# Altium footprint library Special.PcbLib: 67 footprints (part 4 of 5)
Each footprint in its own frame and in the unit in brackets; x right, y up, seen from the top. Pads: shape width x height; smd on the part's side, far side on the other; paste and mask are expansions set on the pad; w line width, h text height; cw(c..) or ccw(c..) is an arc to the next point about the centre after c.
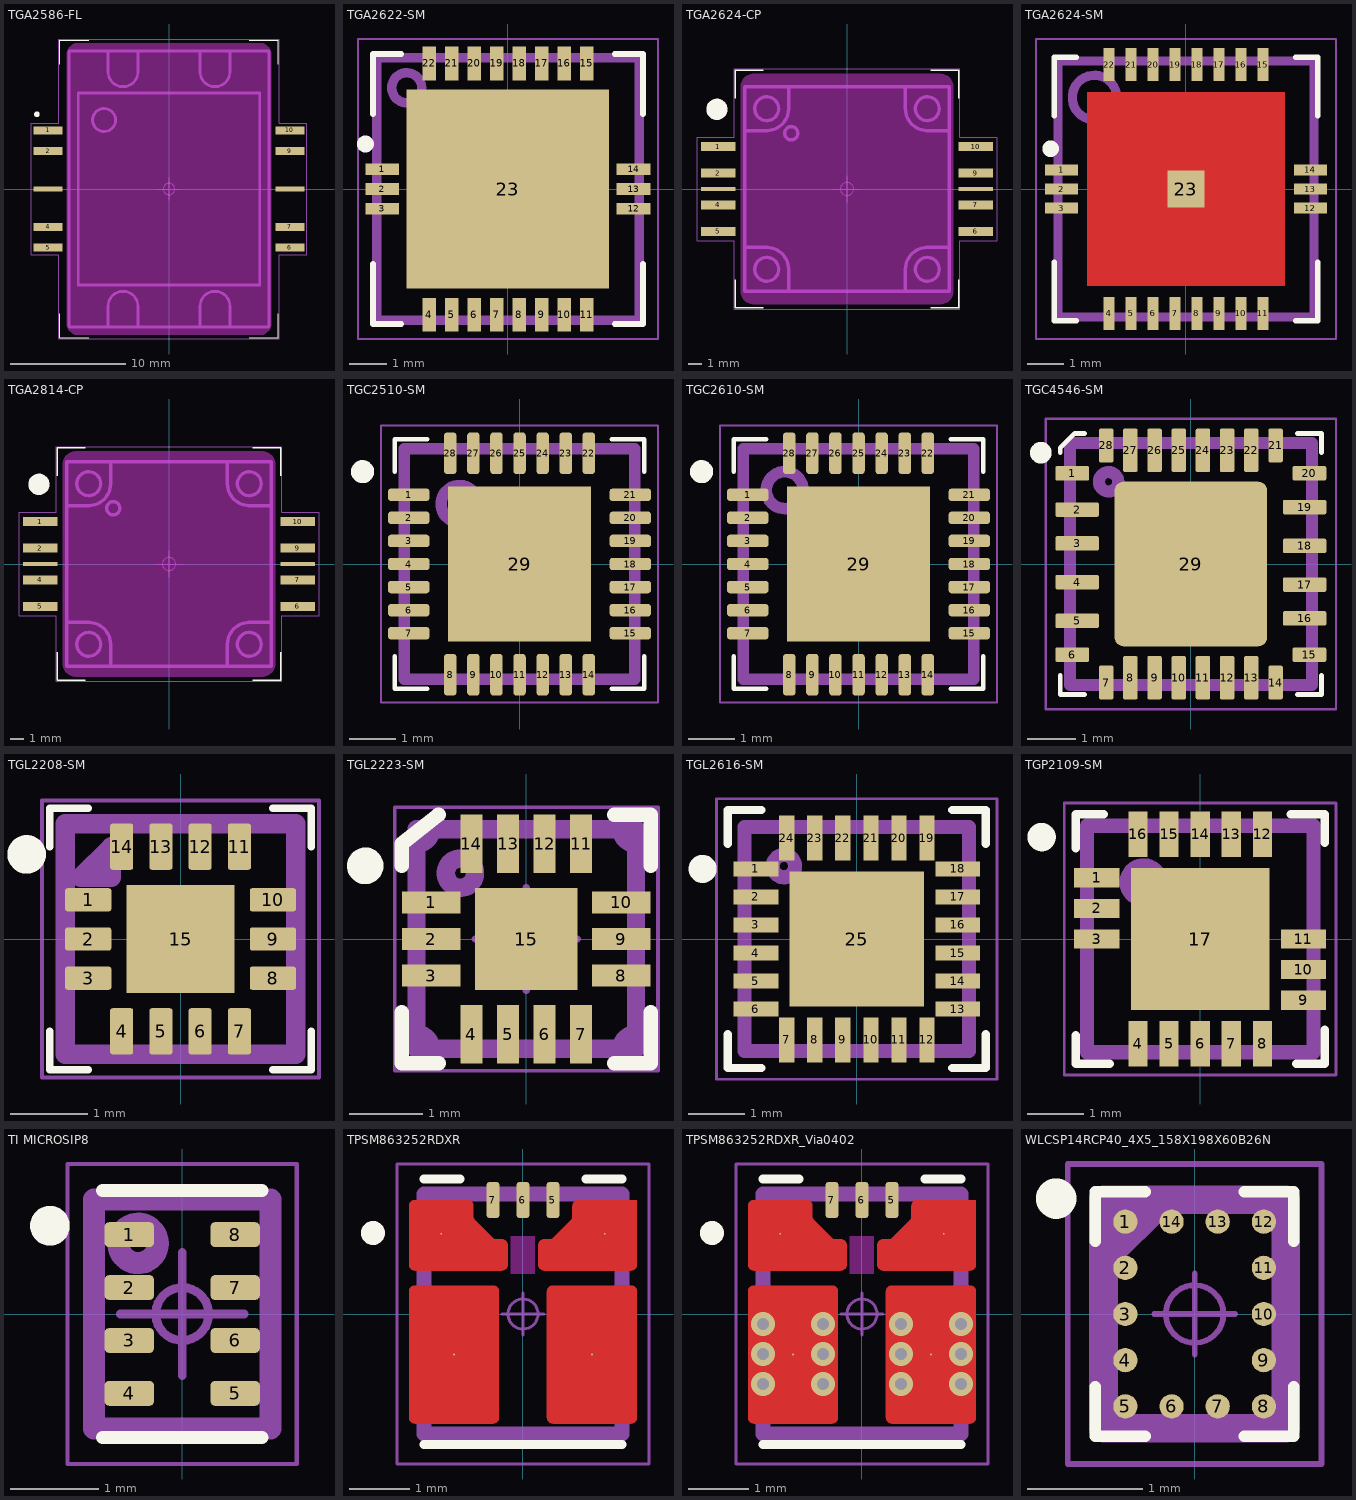
[diagram p3: the footprints below, top view; thin cyan lines are the x and y axes]

## TGA2586-FL [mm] "10 pin CuW-base, flanged  package"
height 1.9
pads (10):
  rect 2.5x0.7 smd: 1(-10.525,5.1) 2(-10.525,3.3) 4(-10.525,-3.3) 5(-10.525,-5.1) 6(10.525,-5.1) 7(10.525,-3.3) 9(10.525,3.3) 10(10.525,5.1)
  rect 2.5x0.4 smd: 3(-10.525,0) 8(10.525,0)
Top Overlay:
  circle w0.3: c-11.5,6.5 r0.1
  lines w0.1: -9.5,-10.85 -9.5,-12.95 -7,-12.95 ; -9.5,10.85 -9.5,12.95 -7,12.95 ; 7,-12.95 9.5,-12.95 9.5,-10.85 ; 7,12.95 9.5,12.95 9.5,10.85
Keep-Out Layer:
  board cut-out: -8.875,11.725 -8.875,-11.725 -8.875,-11.821 -8.838,-12.009 -8.764,-12.187 -8.657,-12.347 -8.522,-12.482 -8.362,-12.589 -8.184,-12.663 -7.996,-12.7 -7.9,-12.7 7.9,-12.7 7.996,-12.7 8.184,-12.663 8.362,-12.589 8.522,-12.482 8.657,-12.346 8.764,-12.187 8.838,-12.009 8.875,-11.821 8.875,-11.725 8.875,11.725 8.875,11.821 8.838,12.009 8.764,12.187 8.657,12.347 8.522,12.482 8.362,12.589 8.184,12.662 7.996,12.7 7.9,12.7 -7.9,12.7 -7.996,12.7 -8.184,12.663 -8.362,12.589 -8.522,12.482 -8.657,12.347 -8.764,12.187 -8.838,12.009 -8.875,11.821
Top Assembly:
  circle w0.25: c-5.65,6 r1
  lines w0.25: -5.3,-12 -5.3,-10.2 cw(c-4,-10.2) -2.7,-10.2 -2.7,-12 ; -5.3,12 -5.3,10.2 ccw(c-4,10.2) -2.7,10.2 -2.7,12 ; 2.7,-12 2.7,-10.2 cw(c4,-10.2) 5.3,-10.2 5.3,-12 ; 2.7,12 2.7,10.2 ccw(c4,10.2) 5.3,10.2 5.3,12 ; -8.7,-12 8.7,-12 8.7,12 -8.7,12 -8.7,-12 ; -7.9,-8.35 7.9,-8.35 7.9,8.35 -7.9,8.35 -7.9,-8.35
  text ".Designator" at -2.7,-0.2 h1.5
Top Courtyard:
  circle w0.1: c0,0 r0.5
  lines w0.05: -1,0 1,0 ; 0,-1 0,1 ; -12,-5.7 -12,5.7 -9.6,5.7 -9.6,13.05 9.6,13.05 9.6,5.7 12,5.7 12,-5.7 9.6,-5.7 9.6,-13.05 -9.6,-13.05 -9.6,-5.7 -12,-5.7
3D body "TGA2586-FL.STEP": height 1.91, standoff -2.03, extent -10.706,-12.001 10.706,12.002

## TGA2622-SM [mm] "Qorvo 7x7x1.75 mm Pullback QFN 22L"
pads (23):
  rect 0.9x0.31 smd: 1(-3.35,0.525) 2(-3.35,0) 3(-3.35,-0.525) 12(3.35,-0.525) 13(3.35,0) 14(3.35,0.525)
  rect 0.35x0.9 smd: 4(-2.1,-3.35) 5(-1.5,-3.35) 6(-0.9,-3.35) 7(-0.3,-3.35) 8(0.3,-3.35) 9(0.9,-3.35) 10(1.5,-3.35) 11(2.1,-3.35) 15(2.1,3.35) 16(1.5,3.35) 17(0.9,3.35) 18(0.3,3.35) 19(-0.3,3.35) 20(-0.9,3.35) 21(-1.5,3.35) 22(-2.1,3.35)
  rect 5.4x5.3 smd paste+0 mask+0: 23(0,0)
Top Overlay:
  circle w0.25: c-3.8,1.2 r0.1
  lines w0.15: -3.6,-2 -3.6,-3.6 -2.85,-3.6 ; -3.6,2 -3.6,3.6 -2.85,3.6 ; 2.85,-3.6 3.6,-3.6 3.6,-2 ; 2.85,3.6 3.6,3.6 3.6,2
Top Assembly:
  circle w0.25: c-2.7,2.7 r0.4
  lines w0.25: -3.5,-3.5 -3.5,3.5 3.5,3.5 3.5,-3.5 -3.5,-3.5
  text ".Designator" at -3.378,-0.339 h1.5
Top Courtyard:
  circle w0.05: c0,0 r0.5
  lines w0.05: -1,0 1,0 ; 0,-1 0,1 ; -4,-4 4,-4 4,4 -4,4 -4,-4
3D body "TGA2622-SM.STEP": height 1.75, standoff 0, extent -3.5,-3.5 3.5,3.5

## TGA2624-CP [mm] "10-lead 15x15 mm  bolt-down package with a Cu base"
height 2.1
pads (10):
  rect 2.6x0.7 smd: 1(-9.7,3.2) 2(-9.7,1.2) 4(-9.7,-1.2) 5(-9.7,-3.2) 6(9.7,-3.2) 7(9.7,-1.2) 9(9.7,1.2) 10(9.7,3.2)
  rect 2.6x0.3 smd: 3(-9.7,0) 8(9.7,0)
Top Overlay:
  circle w0.8: c-9.8,6 r0.4
  lines w0.1: -8.4,-6.85 -8.4,-8.95 -6.3,-8.95 ; -8.4,6.85 -8.4,8.95 -6.3,8.95 ; 6.3,-8.95 8.4,-8.95 8.4,-6.85 ; 6.3,8.95 8.4,8.95 8.4,6.85
Keep-Out Layer:
  board cut-out: -7,8.7 7,8.7 7.098,8.7 7.292,8.662 7.474,8.586 7.637,8.477 7.777,8.337 7.886,8.174 7.962,7.992 8,7.798 8,7.7 8,-7.7 8,-7.799 7.962,-7.992 7.886,-8.174 7.777,-8.337 7.637,-8.477 7.474,-8.586 7.292,-8.662 7.098,-8.7 7,-8.7 -7,-8.7 -7.098,-8.7 -7.292,-8.662 -7.474,-8.586 -7.637,-8.477 -7.777,-8.337 -7.886,-8.174 -7.962,-7.992 -8,-7.798 -8,-7.7 -8,7.7 -8,7.798 -7.962,7.992 -7.886,8.174 -7.777,8.337 -7.638,8.477 -7.474,8.586 -7.292,8.662 -7.099,8.7
Top Assembly:
  circle w0.25: c-6.05,6.05 r0.9
  circle w0.25: c6.05,6.05 r0.9
  circle w0.25: c6.05,-6.05 r0.9
  circle w0.25: c-6.05,-6.05 r0.9
  circle w0.25: c-4.2,4.2 r0.5
  lines w0.25: -7.7,-4.4 -6,-4.4 ; -7.7,4.4 -6,4.4 ; -6.05,-4.4 cw(c-6.05,-6.05) -4.4,-6.05 ; -6.05,4.4 ccw(c-6.05,6.05) -4.4,6.05 ; -4.4,-7.7 -4.4,-6 ; -4.4,6 -4.4,7.7 ; 4.4,-7.7 4.4,-6 ; 4.4,-6.05 cw(c6.05,-6.05) 6.05,-4.4 ; 4.4,6 4.4,7.7 ; 4.4,6.05 ccw(c6.05,6.05) 6.05,4.4 ; 6,-4.4 7.7,-4.4 ; 6,4.4 7.7,4.4 ; -7.7,-7.7 7.7,-7.7 7.7,7.7 -7.7,7.7 -7.7,-7.7
  text ".Designator" at -2.7,-0.2 h1.5
Top Courtyard:
  circle w0.05: c0,0 r0.5
  lines w0.05: -1,0 1,0 ; 0,-1 0,1 ; -11.3,-3.9 -11.3,3.9 -8.5,3.9 -8.5,9.05 8.5,9.05 8.5,3.9 11.3,3.9 11.3,-3.9 8.5,-3.9 8.5,-9.05 -8.5,-9.05 -8.5,-3.9 -11.3,-3.9
3D body "tga-2624-cp.STEP": height 2.2, standoff -1.4, extent -9.55,-7.65 9.55,7.65

## TGA2624-SM [mm] "Qorvo TGA2624-SM QFN 7 x 7 x 1.7 mm"
height 1.717
pads (23):
  rect 0.9x0.3 smd: 1(-3.4,0.525) 2(-3.4,0) 3(-3.4,-0.525) 12(3.4,-0.525) 13(3.4,0) 14(3.4,0.525)
  rect 0.3x0.9 smd: 4(-2.1,-3.4) 5(-1.5,-3.4) 6(-0.9,-3.4) 7(-0.3,-3.4) 8(0.3,-3.4) 9(0.9,-3.4) 10(1.5,-3.4) 11(2.1,-3.4) 15(2.1,3.4) 16(1.5,3.4) 17(0.9,3.4) 18(0.3,3.4) 19(-0.3,3.4) 20(-0.9,3.4) 21(-1.5,3.4) 22(-2.1,3.4)
  rect 1x1 smd: 23(0,0)
Top Layer:
  region: -2.7,2.65 2.7,2.65 2.7,-2.65 -2.7,-2.65
Top Overlay:
  circle w0.25: c-3.7,1.1 r0.1
  lines w0.15: -3.6,-2 -3.6,-3.6 -3,-3.6 ; -3.6,2 -3.6,3.6 -3,3.6 ; 3,-3.6 3.6,-3.6 3.6,-2 ; 3,3.6 3.6,3.6 3.6,2
Top Assembly:
  circle w0.25: c-2.5,2.5 r0.608
  lines w0.25: -3.5,-3.5 3.5,-3.5 3.5,3.5 -3.5,3.5 -3.5,-3.5
  text ".Designator" at -3.378,-0.339 h1.5
Top Courtyard:
  circle w0.05: c0,0 r0.5
  lines w0.05: -1,0 1,0 ; 0,-1 0,1 ; -4.1,-4.1 4.1,-4.1 4.1,4.1 -4.1,4.1 -4.1,-4.1
3D body "TGA2624-SM.STEP": height 1.72, standoff 0, extent -3.5,-3.5 3.5,3.5

## TGA2814-CP [mm] "10-lead 15x15 mm  bolt-down package with a Cu base"
height 2.1
pads (10):
  rect 2.6x0.7 smd: 1(-9.7,3.2) 2(-9.7,1.2) 4(-9.7,-1.2) 5(-9.7,-3.2) 6(9.7,-3.2) 7(9.7,-1.2) 9(9.7,1.2) 10(9.7,3.2)
  rect 2.6x0.3 smd: 3(-9.7,0) 8(9.7,0)
Top Overlay:
  circle w0.8: c-9.8,6 r0.4
  lines w0.1: -8.4,-6.65 -8.4,-8.75 -6.3,-8.75 ; -8.4,6.65 -8.4,8.75 -6.3,8.75 ; 6.3,-8.75 8.4,-8.75 8.4,-6.65 ; 6.3,8.75 8.4,8.75 8.4,6.65
Keep-Out Layer:
  board cut-out: -7,8.5 7,8.5 7.098,8.5 7.292,8.462 7.474,8.386 7.637,8.277 7.777,8.137 7.886,7.974 7.962,7.792 8,7.598 8,7.5 8,-7.5 8,-7.599 7.961,-7.792 7.886,-7.974 7.777,-8.137 7.637,-8.277 7.474,-8.386 7.292,-8.462 7.098,-8.5 7,-8.5 -7,-8.5 -7.098,-8.5 -7.292,-8.462 -7.474,-8.386 -7.637,-8.277 -7.777,-8.137 -7.886,-7.974 -7.962,-7.792 -8,-7.598 -8,-7.5 -8,7.5 -8,7.599 -7.962,7.792 -7.886,7.974 -7.777,8.137 -7.637,8.277 -7.474,8.386 -7.292,8.462 -7.098,8.5
Top Assembly:
  circle w0.25: c-4.2,4.2 r0.5
  circle w0.25: c-6.05,-6.05 r0.9
  circle w0.25: c6.05,-6.05 r0.9
  circle w0.25: c6.05,6.05 r0.9
  circle w0.25: c-6.05,6.05 r0.9
  lines w0.25: -7.7,-4.4 -6,-4.4 ; -7.7,4.4 -6,4.4 ; -6.05,-4.4 cw(c-6.05,-6.05) -4.4,-6.05 ; -6.05,4.4 ccw(c-6.05,6.05) -4.4,6.05 ; -4.4,-7.7 -4.4,-6 ; -4.4,6 -4.4,7.7 ; 4.4,-7.7 4.4,-6 ; 4.4,-6.05 cw(c6.05,-6.05) 6.05,-4.4 ; 4.4,6 4.4,7.7 ; 4.4,6.05 ccw(c6.05,6.05) 6.05,4.4 ; 6,-4.4 7.7,-4.4 ; 6,4.4 7.7,4.4 ; -7.7,-7.7 -7.7,7.7 7.7,7.7 7.7,-7.7 -7.7,-7.7
  text ".Designator" at -2.6,-0.1 h1.5
Top Courtyard:
  circle w0.05: c0,0 r0.5
  lines w0.05: -1,0 1,0 ; 0,-1 0,1 ; -11.3,-3.9 -8.5,-3.9 -8.5,-8.85 8.5,-8.85 8.5,-3.9 11.3,-3.9 11.3,3.9 8.5,3.9 8.5,8.85 -8.5,8.85 -8.5,3.9 -11.3,3.9 -11.3,-3.9
3D body "TGA2814-CP.STEP": height 2.76, standoff -1, extent -9.525,-7.62 9.525,7.62

## TGC2510-SM [mm] "TGC2510-SM"
height 1.4
pads (29):
  rrect50% 0.9x0.27 smd: 1(-2.4,1.5) 2(-2.4,1) 3(-2.4,0.5) 4(-2.4,0) 5(-2.4,-0.5) 6(-2.4,-1) 7(-2.4,-1.5) 15(2.4,-1.5) 16(2.4,-1) 17(2.4,-0.5) 18(2.4,0) 19(2.4,0.5) 20(2.4,1) 21(2.4,1.5)
  rrect50% 0.27x0.9 smd: 8(-1.5,-2.4) 9(-1,-2.4) 10(-0.5,-2.4) 11(0,-2.4) 12(0.5,-2.4) 13(1,-2.4) 14(1.5,-2.4) 22(1.5,2.4) 23(1,2.4) 24(0.5,2.4) 25(0,2.4) 26(-0.5,2.4) 27(-1,2.4) 28(-1.5,2.4)
  rect 3.1x3.35 smd paste-3.35 mask-3.35: 29(0,0)
Top Overlay:
  circle w0.3: c-3.4,2 r0.1
  lines w0.1: -2.7,-2 -2.7,-2.7 -2,-2.7 ; -2.7,2 -2.7,2.7 -2,2.7 ; 2,-2.7 2.7,-2.7 2.7,-2 ; 2,2.7 2.7,2.7 2.7,2
Top Paste:
  region: -0.235,1.435 -1.315,1.435 -1.315,0.235 -0.235,0.235
  region: -0.235,-1.435 -1.315,-1.435 -1.315,-0.235 -0.235,-0.235
  region: 0.235,-1.435 1.315,-1.435 1.315,-0.235 0.235,-0.235
  region: 0.235,1.435 1.315,1.435 1.315,0.235 0.235,0.235
Top Solder:
  region: -1.55,-1.675 -1.55,1.675 1.55,1.675 1.55,-1.675
Top Assembly:
  circle w0.25: c-1.3,1.3 r0.4
  lines w0.25: -2.5,-2.5 2.5,-2.5 2.5,2.5 -2.5,2.5 -2.5,-2.5
  text ".Designator" at -2,-0.5 h1.5
Top Courtyard:
  circle w0.05: c0,0 r0.3
  lines w0.05: -0.5,0 0.5,0 ; 0,-0.5 0,0.5 ; -3,-3 -3,3 3,3 3,-3 -3,-3
3D body "TGC2510-SM.STEP": height 1.4, standoff 0, extent -2.55,-2.55 2.55,2.55

## TGC2610-SM [mm] "TGC2610-SM"
height 1.4
pads (29):
  rrect50% 0.9x0.27 smd: 1(-2.4,1.5) 2(-2.4,1) 3(-2.4,0.5) 4(-2.4,0) 5(-2.4,-0.5) 6(-2.4,-1) 7(-2.4,-1.5) 15(2.4,-1.5) 16(2.4,-1) 17(2.4,-0.5) 18(2.4,0) 19(2.4,0.5) 20(2.4,1) 21(2.4,1.5)
  rrect50% 0.27x0.9 smd: 8(-1.5,-2.4) 9(-1,-2.4) 10(-0.5,-2.4) 11(0,-2.4) 12(0.5,-2.4) 13(1,-2.4) 14(1.5,-2.4) 22(1.5,2.4) 23(1,2.4) 24(0.5,2.4) 25(0,2.4) 26(-0.5,2.4) 27(-1,2.4) 28(-1.5,2.4)
  rect 3.1x3.35 smd paste-3.35 mask-3.35: 29(0,0)
Top Overlay:
  circle w0.3: c-3.4,2 r0.1
  lines w0.1: -2.7,-2 -2.7,-2.7 -2,-2.7 ; -2.7,2 -2.7,2.7 -2,2.7 ; 2,-2.7 2.7,-2.7 2.7,-2 ; 2,2.7 2.7,2.7 2.7,2
Top Paste:
  region: -0.235,1.435 -1.315,1.435 -1.315,0.235 -0.235,0.235
  region: -0.235,-1.435 -1.315,-1.435 -1.315,-0.235 -0.235,-0.235
  region: 0.235,-1.435 1.315,-1.435 1.315,-0.235 0.235,-0.235
  region: 0.235,1.435 1.315,1.435 1.315,0.235 0.235,0.235
Top Solder:
  region: -1.55,-1.675 -1.55,1.675 1.55,1.675 1.55,-1.675
Top Assembly:
  circle w0.25: c-1.6,1.6 r0.4
  lines w0.25: -2.5,-2.5 2.5,-2.5 2.5,2.5 -2.5,2.5 -2.5,-2.5
  text ".Designator" at -2,-0.4 h1.5
Top Courtyard:
  circle w0.05: c0,0 r0.3
  lines w0.05: -0.5,0 0.5,0 ; 0,-0.5 0,0.5 ; -3,-3 -3,3 3,3 3,-3 -3,-3
3D body "TGC2610-SM.STEP": height 1.4, standoff 0, extent -2.55,-2.55 2.55,2.55

## TGC4546-SM [mm] "TriQuint TGC4546-SM"
height 1.4
pads (29):
  rrect25% 0.7x0.3 smd: 1(-2.45,1.875) 6(-2.45,-1.875) 15(2.45,-1.875) 20(2.45,1.875)
  rrect25% 0.9x0.3 smd: 2(-2.35,1.125) 3(-2.35,0.425) 4(-2.35,-0.375) 5(-2.35,-1.175) 16(2.35,-1.125) 17(2.35,-0.425) 18(2.35,0.375) 19(2.35,1.175)
  rrect25% 0.3x0.7 smd: 7(-1.75,-2.45) 14(1.75,-2.45) 21(1.75,2.45) 28(-1.75,2.45)
  rrect25% 0.3x0.9 smd: 8(-1.25,-2.35) 9(-0.75,-2.35) 10(-0.25,-2.35) 11(0.25,-2.35) 12(0.75,-2.35) 13(1.25,-2.35) 22(1.25,2.35) 23(0.75,2.35) 24(0.25,2.35) 25(-0.25,2.35) 26(-0.75,2.35) 27(-1.25,2.35)
  rrect11% 3.15x3.4 smd: 29(0,0)
Top Overlay:
  circle w0.25: c-3.1,2.3 r0.1
  lines w0.1: -2.7,-2.3 -2.7,-2.7 -2.2,-2.7 ; -2.7,2.3 -2.7,2.4 -2.4,2.7 -2.2,2.7 ; 2.2,-2.7 2.7,-2.7 2.7,-2.3 ; 2.2,2.7 2.7,2.7 2.7,2.3
Top Assembly:
  circle w0.25: c-1.7,1.7 r0.2
  lines w0.25: -2.5,-2.5 -2.5,2.5 2.5,2.5 2.5,-2.5 -2.5,-2.5
  text ".Designator" at -1.625,-0.325 h1.5
Top Courtyard:
  circle w0.05: c0,0 r0.3
  lines w0.05: -0.5,0 0.5,0 ; 0,-0.5 0,0.5 ; -3,-3 -3,3 3,3 3,-3 -3,-3
3D body "TGC4546-SM.STEP": height 1.4, standoff -0.05, extent -2.5,-2.501 2.5,2.5

## TGL2208-SM [mm] "Qorvo TGL2208-SM"
height 1.7
pads (15):
  rrect20% 0.6x0.3 smd: 1(-1.2,0.51) 2(-1.2,0) 3(-1.2,-0.51) 8(1.2,-0.51) 9(1.2,0) 10(1.2,0.51)
  rrect20% 0.3x0.6 smd: 4(-0.765,-1.2) 5(-0.255,-1.2) 6(0.255,-1.2) 7(0.765,-1.2) 11(0.765,1.2) 12(0.255,1.2) 13(-0.255,1.2) 14(-0.765,1.2)
  rect 1.4x1.4 smd: 15(0,0)
Top Overlay:
  circle w0.3: c-2,1.1 r0.1
  lines w0.1: -1.7,-1.2 -1.7,-1.7 -1.2,-1.7 ; -1.7,1.2 -1.7,1.7 -1.2,1.7 ; 1.2,-1.7 1.7,-1.7 1.7,-1.2 ; 1.2,1.7 1.7,1.7 1.7,1.2
Top Assembly:
  lines w0.25: -1.499,-1.499 -1.499,1.499 1.499,1.499 1.499,-1.499 -1.499,-1.499 ; -1.3,0.8 -0.9,0.8 -0.9,1.2 -1.3,0.8
  text ".Designator" at -1.3,-0.5 h1.5
Top Courtyard:
  circle w0.05: c0,0 r0.3
  lines w0.05: -0.5,0 0.5,0 ; 0,-0.5 0,0.5 ; -1.8,-1.8 1.8,-1.8 1.8,1.8 -1.8,1.8 -1.8,-1.8
3D body "TGL2208-SM.STEP": height 1.78, standoff 0, extent -1.499,-1.499 1.499,1.499

## TGL2223-SM [mm] "TGL2223-SM"
height 1.6
pads (15):
  rect 0.8x0.3 smd: 1(-1.3,0.5) 2(-1.3,0) 3(-1.3,-0.5) 8(1.3,-0.5) 9(1.3,0) 10(1.3,0.5)
  rect 0.3x0.8 smd: 4(-0.75,-1.3) 5(-0.25,-1.3) 6(0.25,-1.3) 7(0.75,-1.3) 11(0.75,1.3) 12(0.25,1.3) 13(-0.25,1.3) 14(-0.75,1.3)
  rect 1.4x1.4 smd: 15(0,0)
Top Overlay:
  circle w0.3: c-2.2,1 r0.1
  lines w0.2: -1.7,-1 -1.7,-1.7 -1.2,-1.7 ; -1.7,1 -1.7,1.3 -1.2,1.7 ; 1.2,-1.7 1.7,-1.7 1.7,-1 ; 1.2,1.7 1.7,1.7 1.7,1
Top Assembly:
  circle w0.25: c-0.9,0.9 r0.2
  lines w0.25: -1.5,-1.3 cw(c-1.5,-1.5) -1.3,-1.5 ; -1.5,1.3 ccw(c-1.5,1.5) -1.3,1.5 ; 1.3,-1.5 cw(c1.5,-1.5) 1.5,-1.3 ; 1.3,1.5 ccw(c1.5,1.5) 1.5,1.3 ; -1.5,-1.5 1.5,-1.5 1.5,1.5 -1.5,1.5 -1.5,-1.5
  text ".Designator" at -1.3,-0.5 h1.5
Top Courtyard:
  circle w0.1: c0,0 r0.3
  lines w0.05: -1.8,-1.8 -1.8,1.8 1.8,1.8 1.8,-1.8 -1.8,-1.8
  lines w0.1: -0.7,0 0.7,0 ; 0,-0.7 0,0.7
3D body "TGL2223-SM.STEP": height 1.61, standoff -0.02, extent -1.5,-1.5 1.5,1.5

## TGL2616-SM [mm] "Qorvo TGL2616-SM"
height 1.77
pads (25):
  rect 0.8x0.27 smd: 1(-1.8,1.25) 2(-1.8,0.75) 3(-1.8,0.25) 4(-1.8,-0.25) 5(-1.8,-0.75) 6(-1.8,-1.25) 13(1.8,-1.25) 14(1.8,-0.75) 15(1.8,-0.25) 16(1.8,0.25) 17(1.8,0.75) 18(1.8,1.25)
  rect 0.27x0.8 smd: 7(-1.25,-1.8) 8(-0.75,-1.8) 9(-0.25,-1.8) 10(0.25,-1.8) 11(0.75,-1.8) 12(1.25,-1.8) 19(1.25,1.8) 20(0.75,1.8) 21(0.25,1.8) 22(-0.25,1.8) 23(-0.75,1.8) 24(-1.25,1.8)
  rect 2.4x2.4 smd: 25(0,0)
Top Overlay:
  circle w0.3: c-2.75,1.25 r0.1
  lines w0.15: -2.3,-1.7 -2.3,-2.3 -1.7,-2.3 ; -2.3,1.7 -2.3,2.3 -1.7,2.3 ; 1.7,-2.3 2.3,-2.3 2.3,-1.7 ; 1.7,2.3 2.3,2.3 2.3,1.7
Top Assembly:
  circle w0.25: c-1.3,1.3 r0.2
  lines w0.25: -2,-2 -2,2 2,2 2,-2 -2,-2
  text ".Designator" at -1.7,-0.5 h1.5
Top Courtyard:
  circle w0.1: c0,0 r0.3
  lines w0.05: -2.5,-2.5 -2.5,2.5 2.5,2.5 2.5,-2.5 -2.5,-2.5
  lines w0.1: -0.7,0 0.7,0 ; 0,-0.7 0,0.7
3D body "TGL2616-SM.STEP": height 1.77, standoff 0, extent -2,-2 2,2

## TGP2109-SM [mm] "Qorvo TGP2109-SM"
height 1.64
pads (17):
  rect 0.8x0.34 smd: 1(-1.825,1.08) 2(-1.825,0.54) 3(-1.825,0) 9(1.825,-1.08) 10(1.825,-0.54) 11(1.825,0)
  rect 0.34x0.8 smd: 4(-1.1,-1.85) 5(-0.55,-1.85) 6(0,-1.85) 7(0.55,-1.85) 8(1.1,-1.85) 12(1.1,1.85) 13(0.55,1.85) 14(0,1.85) 15(-0.55,1.85) 16(-1.1,1.85)
  rect 2.45x2.5 smd: 17(0,0)
Top Overlay:
  circle w0.3: c-2.8,1.8 r0.1
  lines w0.15: -2.2,-1.7 -2.2,-2.2 -1.6,-2.2 ; -2.2,1.6 -2.2,2.2 -1.7,2.2 ; 1.6,2.2 2.2,2.2 2.2,1.7 ; 1.7,-2.2 2.2,-2.2 2.2,-1.6
Top Assembly:
  circle w0.25: c-1,1 r0.3
  lines w0.25: -2,-2 2,-2 2,2 -2,2 -2,-2
  text ".Designator" at -1.8,-0.5 h1.5
Top Courtyard:
  circle w0.1: c0,0 r0.3
  lines w0.05: -2.4,-2.4 2.4,-2.4 2.4,2.4 -2.4,2.4 -2.4,-2.4
  lines w0.1: -0.7,0 0.7,0 ; 0,-0.7 0,0.7
3D body "TGP2109-SM.STEP": height 1.64, standoff 0, extent -2,-2 2,2

## TI MICROSIP8 [mm] "MicroSiP - 1.2 mm max height"
height 1.2
pads (8):
  rrect35% 0.56x0.28 smd: 1(-0.6,0.9) 2(-0.6,0.3) 3(-0.6,-0.3) 4(-0.6,-0.9) 5(0.6,-0.9) 6(0.6,-0.3) 7(0.6,0.3) 8(0.6,0.9)
Top Overlay:
  circle w0.25: c-1.5,1 r0.1
  lines w0.15: -0.9,-1.4 0.9,-1.4 ; -0.9,1.4 0.9,1.4
Top Assembly:
  circle w0.25: c-0.5,0.8 r0.224
  lines w0.25: -1,-1.3 -1,1.3 1,1.3 1,-1.3 -1,-1.3
  text ".Designator" at -3.378,-0.339 h1.5
Top Courtyard:
  circle w0.1: c0,0 r0.3
  lines w0.05: -1.3,-1.7 1.3,-1.7 1.3,1.7 -1.3,1.7 -1.3,-1.7
  lines w0.1: -0.7,0 0.7,0 ; 0,-0.7 0,0.7
3D body "MICROSIP8_SIU.STEP": height 1.2, standoff 0, extent -1,-1.3 1,1.3

## TPSM863252RDXR [mm] "TI QFN-FCMOD - 3.3 mm x 4 mm, 2.1 mm max height"
height 2.1
pads (7):
  round 0.025 smd paste+0: 1(-1.362,1.338) 2(-1.15,-0.675) 3(1.15,-0.675) 4(1.362,1.338)
  rrect50% 0.22x0.6 smd paste+0: 5(0.5,1.9) 6(0,1.9) 7(-0.5,1.9)
Top Layer:
  region: 0.305,0.79 0.305,1.21 0.498,1.21 0.875,1.587 0.875,1.9 1.9,1.9 1.9,0.79
  region: 1.81,0.474 1.816,0.474 1.821,0.473 1.826,0.472 1.831,0.47 1.836,0.468 1.841,0.466 1.845,0.464 1.85,0.462 1.854,0.459 1.859,0.456 1.863,0.453 1.867,0.449 1.871,0.446 1.874,0.442 1.878,0.438 1.881,0.434 1.884,0.429 1.887,0.425 1.889,0.42 1.891,0.416 1.893,0.411 1.895,0.406 1.897,0.401 1.898,0.396 1.899,0.391 1.899,0.385 1.9,0.38 1.9,0.375 1.9,-1.725 1.9,-1.73 1.899,-1.735 1.899,-1.741 1.898,-1.746 1.897,-1.751 1.895,-1.756 1.893,-1.761 1.891,-1.766 1.889,-1.77 1.887,-1.775 1.884,-1.779 1.881,-1.784 1.878,-1.788 1.874,-1.792 1.871,-1.796 1.867,-1.799 1.863,-1.803 1.859,-1.806 1.854,-1.809 1.85,-1.812 1.845,-1.814 1.841,-1.816 1.836,-1.818 1.831,-1.82 1.826,-1.822 1.821,-1.823 1.816,-1.824 1.81,-1.824 1.805,-1.825 0.495,-1.825 0.49,-1.824 0.484,-1.824 0.479,-1.823 0.474,-1.822 0.469,-1.82 0.464,-1.818 0.459,-1.816 0.455,-1.814 0.45,-1.812 0.446,-1.809 0.441,-1.806 0.437,-1.803 0.433,-1.799 0.429,-1.796 0.426,-1.792 0.422,-1.788 0.419,-1.784 0.416,-1.779 0.413,-1.775 0.411,-1.77 0.409,-1.766 0.407,-1.761 0.405,-1.756 0.403,-1.751 0.402,-1.746 0.401,-1.741 0.401,-1.735 0.4,-1.73 0.4,-1.725 0.4,0.375 0.4,0.38 0.401,0.385 0.401,0.391 0.402,0.396 0.403,0.401 0.405,0.406 0.407,0.411 0.409,0.416 0.411,0.42 0.413,0.425 0.416,0.429 0.419,0.434 0.422,0.438 0.426,0.442 0.429,0.446 0.433,0.449 0.437,0.453 0.441,0.456 0.446,0.459 0.45,0.462 0.455,0.464 0.459,0.466 0.464,0.468 0.469,0.47 0.474,0.472 0.479,0.473 0.484,0.474 0.49,0.474 0.495,0.475 1.805,0.475
  region: -0.49,0.474 -0.484,0.474 -0.479,0.473 -0.474,0.472 -0.469,0.47 -0.464,0.468 -0.459,0.466 -0.455,0.464 -0.45,0.462 -0.446,0.459 -0.441,0.456 -0.437,0.453 -0.433,0.449 -0.429,0.446 -0.426,0.442 -0.422,0.438 -0.419,0.434 -0.416,0.429 -0.413,0.425 -0.411,0.42 -0.409,0.416 -0.407,0.411 -0.405,0.406 -0.403,0.401 -0.402,0.396 -0.401,0.391 -0.401,0.385 -0.4,0.38 -0.4,0.375 -0.4,-1.725 -0.4,-1.73 -0.401,-1.735 -0.401,-1.741 -0.402,-1.746 -0.403,-1.751 -0.405,-1.756 -0.407,-1.761 -0.409,-1.766 -0.411,-1.77 -0.413,-1.775 -0.416,-1.779 -0.419,-1.784 -0.422,-1.788 -0.426,-1.792 -0.429,-1.796 -0.433,-1.799 -0.437,-1.803 -0.441,-1.806 -0.446,-1.809 -0.45,-1.812 -0.455,-1.814 -0.459,-1.816 -0.464,-1.818 -0.469,-1.82 -0.474,-1.822 -0.479,-1.823 -0.484,-1.824 -0.49,-1.824 -0.495,-1.825 -1.805,-1.825 -1.81,-1.824 -1.816,-1.824 -1.821,-1.823 -1.826,-1.822 -1.831,-1.82 -1.836,-1.818 -1.841,-1.816 -1.845,-1.814 -1.85,-1.812 -1.854,-1.809 -1.859,-1.806 -1.863,-1.803 -1.867,-1.799 -1.871,-1.796 -1.874,-1.792 -1.878,-1.788 -1.881,-1.784 -1.884,-1.779 -1.887,-1.775 -1.889,-1.77 -1.891,-1.766 -1.893,-1.761 -1.895,-1.756 -1.897,-1.751 -1.898,-1.746 -1.899,-1.741 -1.899,-1.735 -1.9,-1.73 -1.9,-1.725 -1.9,0.375 -1.9,0.38 -1.899,0.385 -1.899,0.391 -1.898,0.396 -1.897,0.401 -1.895,0.406 -1.893,0.411 -1.891,0.416 -1.889,0.42 -1.887,0.425 -1.884,0.429 -1.881,0.434 -1.878,0.438 -1.874,0.442 -1.871,0.446 -1.867,0.449 -1.863,0.453 -1.859,0.456 -1.854,0.459 -1.85,0.462 -1.845,0.464 -1.841,0.466 -1.836,0.468 -1.831,0.47 -1.826,0.472 -1.821,0.473 -1.816,0.474 -1.81,0.474 -1.805,0.475 -0.495,0.475
  region: 204 vertices and 0 holes, not listed, extent 0.255,0.725 1.9,1.9
  region: 204 vertices and 0 holes, not listed, extent -1.9,0.725 -0.255,1.9
Top Layer keep-out:
  region: 0.2,0.675 -0.2,0.675 -0.2,1.295 0.2,1.295
Top Overlay:
  circle w0.2: c-2.5,1.35 r0.1
  lines w0.15: -1.65,-2.175 1.65,-2.175 ; -1.65,2.25 -1.05,2.25 ; 1.05,2.25 1.65,2.25
Top Assembly:
  lines w0.25: -1.65,-2 1.65,-2 1.65,2 -1.65,2 -1.65,-2
Top Courtyard:
  circle w0.05: c0,0 r0.25
  lines w0.05: -0.35,0 0.35,0 ; 0,-0.35 0,0.35 ; -2.1,-2.5 2.1,-2.5 2.1,2.5 -2.1,2.5 -2.1,-2.5
3D body "TPSM863252RDXR.STEP": height 2.1, standoff 0, extent -1.7,-2 1.7,2.05

## TPSM863252RDXR_Via0402 [mm] "TI QFN-FCMOD - 3.3 mm x 4 mm, 2.1 mm max height, with recommended vias"
height 2.1
pads (7):
  round 0.025 smd paste-1 mask+0: 1(-1.362,1.338) 2(-1.15,-0.675) 3(1.15,-0.675) 4(1.362,1.338)
  rrect50% 0.22x0.6 smd paste+0: 5(0.5,1.9) 6(0,1.9) 7(-0.5,1.9)
via -1.65,-0.165 diameter 0.4 hole 0.2
via -1.65,-0.665 diameter 0.4 hole 0.2
via -1.65,-1.165 diameter 0.4 hole 0.2
via -0.65,-0.165 diameter 0.4 hole 0.2
via -0.65,-0.665 diameter 0.4 hole 0.2
via -0.65,-1.165 diameter 0.4 hole 0.2
via 0.65,-0.165 diameter 0.4 hole 0.2
via 0.65,-0.665 diameter 0.4 hole 0.2
via 0.65,-1.165 diameter 0.4 hole 0.2
via 1.65,-1.165 diameter 0.4 hole 0.2
via 1.65,-0.665 diameter 0.4 hole 0.2
via 1.65,-0.165 diameter 0.4 hole 0.2
Top Layer:
  region: 0.305,0.79 0.305,1.21 0.498,1.21 0.875,1.587 0.875,1.9 1.9,1.9 1.9,0.79
  region: 204 vertices and 0 holes, not listed, extent -1.9,0.725 -0.255,1.9
  region: 204 vertices and 0 holes, not listed, extent 0.255,0.725 1.9,1.9
  region: -0.49,0.474 -0.484,0.474 -0.479,0.473 -0.474,0.472 -0.469,0.47 -0.464,0.468 -0.459,0.466 -0.455,0.464 -0.45,0.462 -0.446,0.459 -0.441,0.456 -0.437,0.453 -0.433,0.449 -0.429,0.446 -0.426,0.442 -0.422,0.438 -0.419,0.434 -0.416,0.429 -0.413,0.425 -0.411,0.42 -0.409,0.416 -0.407,0.411 -0.405,0.406 -0.403,0.401 -0.402,0.396 -0.401,0.391 -0.401,0.385 -0.4,0.38 -0.4,0.375 -0.4,-1.725 -0.4,-1.73 -0.401,-1.735 -0.401,-1.741 -0.402,-1.746 -0.403,-1.751 -0.405,-1.756 -0.407,-1.761 -0.409,-1.766 -0.411,-1.77 -0.413,-1.775 -0.416,-1.779 -0.419,-1.784 -0.422,-1.788 -0.426,-1.792 -0.429,-1.796 -0.433,-1.799 -0.437,-1.803 -0.441,-1.806 -0.446,-1.809 -0.45,-1.812 -0.455,-1.814 -0.459,-1.816 -0.464,-1.818 -0.469,-1.82 -0.474,-1.822 -0.479,-1.823 -0.484,-1.824 -0.49,-1.824 -0.495,-1.825 -1.805,-1.825 -1.81,-1.824 -1.816,-1.824 -1.821,-1.823 -1.826,-1.822 -1.831,-1.82 -1.836,-1.818 -1.841,-1.816 -1.845,-1.814 -1.85,-1.812 -1.854,-1.809 -1.859,-1.806 -1.863,-1.803 -1.867,-1.799 -1.871,-1.796 -1.874,-1.792 -1.878,-1.788 -1.881,-1.784 -1.884,-1.779 -1.887,-1.775 -1.889,-1.77 -1.891,-1.766 -1.893,-1.761 -1.895,-1.756 -1.897,-1.751 -1.898,-1.746 -1.899,-1.741 -1.899,-1.735 -1.9,-1.73 -1.9,-1.725 -1.9,0.375 -1.9,0.38 -1.899,0.385 -1.899,0.391 -1.898,0.396 -1.897,0.401 -1.895,0.406 -1.893,0.411 -1.891,0.416 -1.889,0.42 -1.887,0.425 -1.884,0.429 -1.881,0.434 -1.878,0.438 -1.874,0.442 -1.871,0.446 -1.867,0.449 -1.863,0.453 -1.859,0.456 -1.854,0.459 -1.85,0.462 -1.845,0.464 -1.841,0.466 -1.836,0.468 -1.831,0.47 -1.826,0.472 -1.821,0.473 -1.816,0.474 -1.81,0.474 -1.805,0.475 -0.495,0.475
  region: 1.81,0.474 1.816,0.474 1.821,0.473 1.826,0.472 1.831,0.47 1.836,0.468 1.841,0.466 1.845,0.464 1.85,0.462 1.854,0.459 1.859,0.456 1.863,0.453 1.867,0.449 1.871,0.446 1.874,0.442 1.878,0.438 1.881,0.434 1.884,0.429 1.887,0.425 1.889,0.42 1.891,0.416 1.893,0.411 1.895,0.406 1.897,0.401 1.898,0.396 1.899,0.391 1.899,0.385 1.9,0.38 1.9,0.375 1.9,-1.725 1.9,-1.73 1.899,-1.735 1.899,-1.741 1.898,-1.746 1.897,-1.751 1.895,-1.756 1.893,-1.761 1.891,-1.766 1.889,-1.77 1.887,-1.775 1.884,-1.779 1.881,-1.784 1.878,-1.788 1.874,-1.792 1.871,-1.796 1.867,-1.799 1.863,-1.803 1.859,-1.806 1.854,-1.809 1.85,-1.812 1.845,-1.814 1.841,-1.816 1.836,-1.818 1.831,-1.82 1.826,-1.822 1.821,-1.823 1.816,-1.824 1.81,-1.824 1.805,-1.825 0.495,-1.825 0.49,-1.824 0.484,-1.824 0.479,-1.823 0.474,-1.822 0.469,-1.82 0.464,-1.818 0.459,-1.816 0.455,-1.814 0.45,-1.812 0.446,-1.809 0.441,-1.806 0.437,-1.803 0.433,-1.799 0.429,-1.796 0.426,-1.792 0.422,-1.788 0.419,-1.784 0.416,-1.779 0.413,-1.775 0.411,-1.77 0.409,-1.766 0.407,-1.761 0.405,-1.756 0.403,-1.751 0.402,-1.746 0.401,-1.741 0.401,-1.735 0.4,-1.73 0.4,-1.725 0.4,0.375 0.4,0.38 0.401,0.385 0.401,0.391 0.402,0.396 0.403,0.401 0.405,0.406 0.407,0.411 0.409,0.416 0.411,0.42 0.413,0.425 0.416,0.429 0.419,0.434 0.422,0.438 0.426,0.442 0.429,0.446 0.433,0.449 0.437,0.453 0.441,0.456 0.446,0.459 0.45,0.462 0.455,0.464 0.459,0.466 0.464,0.468 0.469,0.47 0.474,0.472 0.479,0.473 0.484,0.474 0.49,0.474 0.495,0.475 1.805,0.475
Top Layer keep-out:
  region: 0.2,0.675 -0.2,0.675 -0.2,1.295 0.2,1.295
Top Overlay:
  circle w0.2: c-2.5,1.35 r0.1
  lines w0.15: -1.65,-2.175 1.65,-2.175 ; -1.65,2.25 -1.05,2.25 ; 1.05,2.25 1.65,2.25
Top Paste:
  drawing of 8 lines, arcs and shapes, not listed
Top Solder:
  drawing of 4 lines, arcs and shapes, not listed
Top Assembly:
  lines w0.25: -1.65,-2 1.65,-2 1.65,2 -1.65,2 -1.65,-2
Top Courtyard:
  circle w0.05: c0,0 r0.25
  lines w0.05: -0.35,0 0.35,0 ; 0,-0.35 0,0.35 ; -2.1,-2.5 2.1,-2.5 2.1,2.5 -2.1,2.5 -2.1,-2.5
3D body "TPSM863252RDXR.STEP": height 2.1, standoff 0, extent -1.7,-2 1.7,2.05

## WLCSP14RCP40_4X5_158X198X60B26N [mm] "WLCSP, 0.40 mm pitch, rect.; 14 pin, 1.58 mm L X 1.98 mm W X 0.602 mm H body (w/reversed pins)"
height 0.602
pads (14):
  round 0.21 smd: 1(-0.6,0.8) 2(-0.6,0.4) 3(-0.6,0) 4(-0.6,-0.4) 5(-0.6,-0.8) 6(-0.2,-0.8) 7(0.2,-0.8) 8(0.6,-0.8) 9(0.6,-0.4) 10(0.6,0) 11(0.6,0.4) 12(0.6,0.8) 13(0.2,0.8) 14(-0.2,0.8)
Top Overlay:
  circle w0.25: c-1.2,1 r0.05
  lines w0.1: -0.86,-0.63 -0.86,-1.06 -0.43,-1.06 ; -0.86,0.63 -0.86,1.06 -0.43,1.06 ; 0.43,-1.06 0.86,-1.06 0.86,-0.63 ; 0.43,1.06 0.86,1.06 0.86,0.63
Top Assembly:
  region: -0.79,0.99 -0.1,0.99 -0.79,0.3
  lines w0.25: -0.79,-0.99 0.79,-0.99 0.79,0.99 -0.79,0.99 -0.79,-0.99
  text ".Designator" at -1.9,1.5 h1.5
Top Courtyard:
  circle w0.05: c0,0 r0.25
  lines w0.05: -0.35,0 0.35,0 ; 0,-0.35 0,0.35 ; -1.1,-1.3 1.1,-1.3 1.1,1.3 -1.1,1.3 -1.1,-1.3
3D body "BGA14RCP40_4X5_158X198X60B26.STEP": height 0.6, standoff 0, extent -0.79,-0.99 0.79,0.99